# EAGLE library part RASPBERRY-PI_REV2 (library IOTExpert)
Raspberry Pi Board <http://www.raspberrypi.org/> Jacques Lagnel V1.0 (beta) 2012 Mateusz Bawaj V1.1 (beta) 2012 Board dimension: Forum 3D model <http://www.raspberrypi.org/forum/general-discussion/mechanical-profile-3d-models?value=3d%20model&type=1&include=1&search=1&ret=all> The GPIO Connector (P1): http://elinux.org/RPi_Low-level_peripherals The GPIO Connector (P5): http://www.raspberrypi-spy.co.uk/2012/09/raspberry-pi-p5-header/
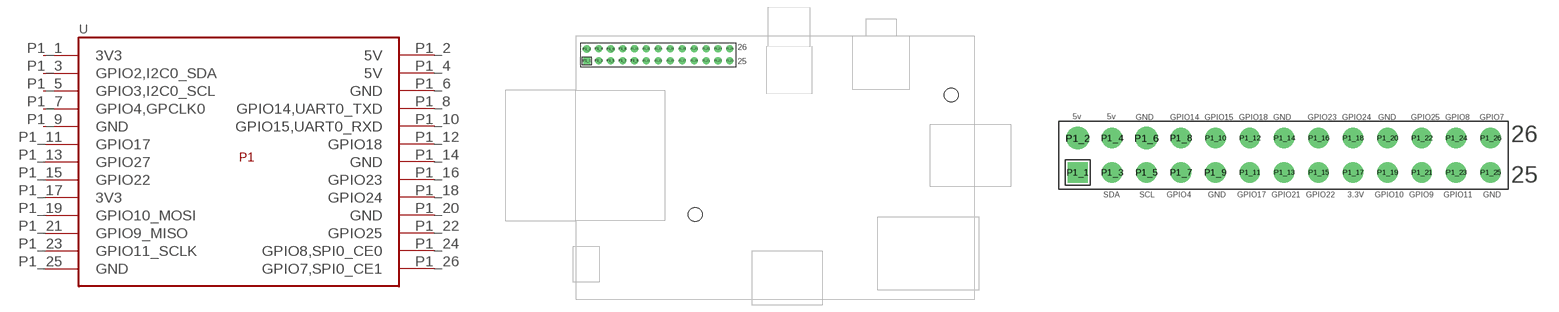
[diagram p1: symbol with the pads of RASPBERRY-PI_REV2; footprints RASPBERRY-PI_REV2, RPI-PINS]

Designator prefix -

## RASPBERRY-PI_REV2  [RASPBERRY-PI_REV2]
P1_1  3V3
P1_2  5V
P1_3  GPIO2,I2C0_SDA
P1_4  5V
P1_5  GPIO3,I2C0_SCL
P1_6  GND
P1_7  GPIO4,GPCLK0
P1_8  GPIO14,UART0_TXD
P1_9  GND
P1_10  GPIO15,UART0_RXD
P1_11  GPIO17
P1_12  GPIO18
P1_13  GPIO27
P1_14  GND
P1_15  GPIO22
P1_16  GPIO23
P1_17  3V3
P1_18  GPIO24
P1_19  GPIO10_MOSI
P1_20  GND
P1_21  GPIO9_MISO
P1_22  GPIO25
P1_23  GPIO11_SCLK
P1_24  GPIO8,SPI0_CE0
P1_25  GND
P1_26  GPIO7,SPI0_CE1

## RASPBERRY-PI_REV2PINONLY  [RPI-PINS]
Pads as for RASPBERRY-PI_REV2

## Footprint RASPBERRY-PI_REV2 (pad centres in mm)
drill 1 square: P1_1 -41.91,21.59
drill 1 pad 1.676: P1_2 -41.91,24.13; P1_6 -36.83,24.13
drill 1: P1_3 -39.37,21.59; P1_4 -39.37,24.13; P1_5 -36.83,21.59; P1_7 -34.29,21.59; P1_8 -34.29,24.13; P1_9 -31.75,21.59; P1_10 -31.75,24.13; P1_11 -29.21,21.59; P1_12 -29.21,24.13; P1_13 -26.67,21.59; P1_14 -26.67,24.13; P1_15 -24.13,21.59; P1_16 -24.13,24.13; P1_17 -21.59,21.59; P1_18 -21.59,24.13; P1_19 -19.05,21.59; P1_20 -19.05,24.13; P1_21 -16.51,21.59; P1_22 -16.51,24.13; P1_23 -13.97,21.59; P1_24 -13.97,24.13; P1_25 -11.43,21.59; P1_26 -11.43,24.13
hole 2.9 at 35.69,14.365
hole 2.9 at -18.81,-11.135

## Footprint RPI-PINS (pad centres in mm)
drill 1 square: P1_1 0,-2.54
drill 1 pad 1.676: P1_2 0,0; P1_6 5.08,0
drill 1: P1_3 2.54,-2.54; P1_4 2.54,0; P1_5 5.08,-2.54; P1_7 7.62,-2.54; P1_8 7.62,0; P1_9 10.16,-2.54; P1_10 10.16,0; P1_11 12.7,-2.54; P1_12 12.7,0; P1_13 15.24,-2.54; P1_14 15.24,0; P1_15 17.78,-2.54; P1_16 17.78,0; P1_17 20.32,-2.54; P1_18 20.32,0; P1_19 22.86,-2.54; P1_20 22.86,0; P1_21 25.4,-2.54; P1_22 25.4,0; P1_23 27.94,-2.54; P1_24 27.94,0; P1_25 30.48,-2.54; P1_26 30.48,0